# Altium schematic symbol library tie.SchLib: 1 symbol
Pins are listed as number, name and electrical type; pins without a type are passive.

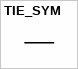
[diagram p0: symbol TIE_SYM]

## TIE_SYM
designator I?  (value not drawn)  (net tie, no BOM)
pins: 1, 2